# Altium footprint library CONN_HDR_2.54MM_ST.PcbLib: 159 footprints (part 7 of 13)
Each footprint in its own frame and in the unit in brackets; x right, y up, seen from the top. Pads: shape width x height; smd on the part's side, far side on the other; paste and mask are expansions set on the pad; w line width, h text height; cw(c..) or ccw(c..) is an arc to the next point about the centre after c.
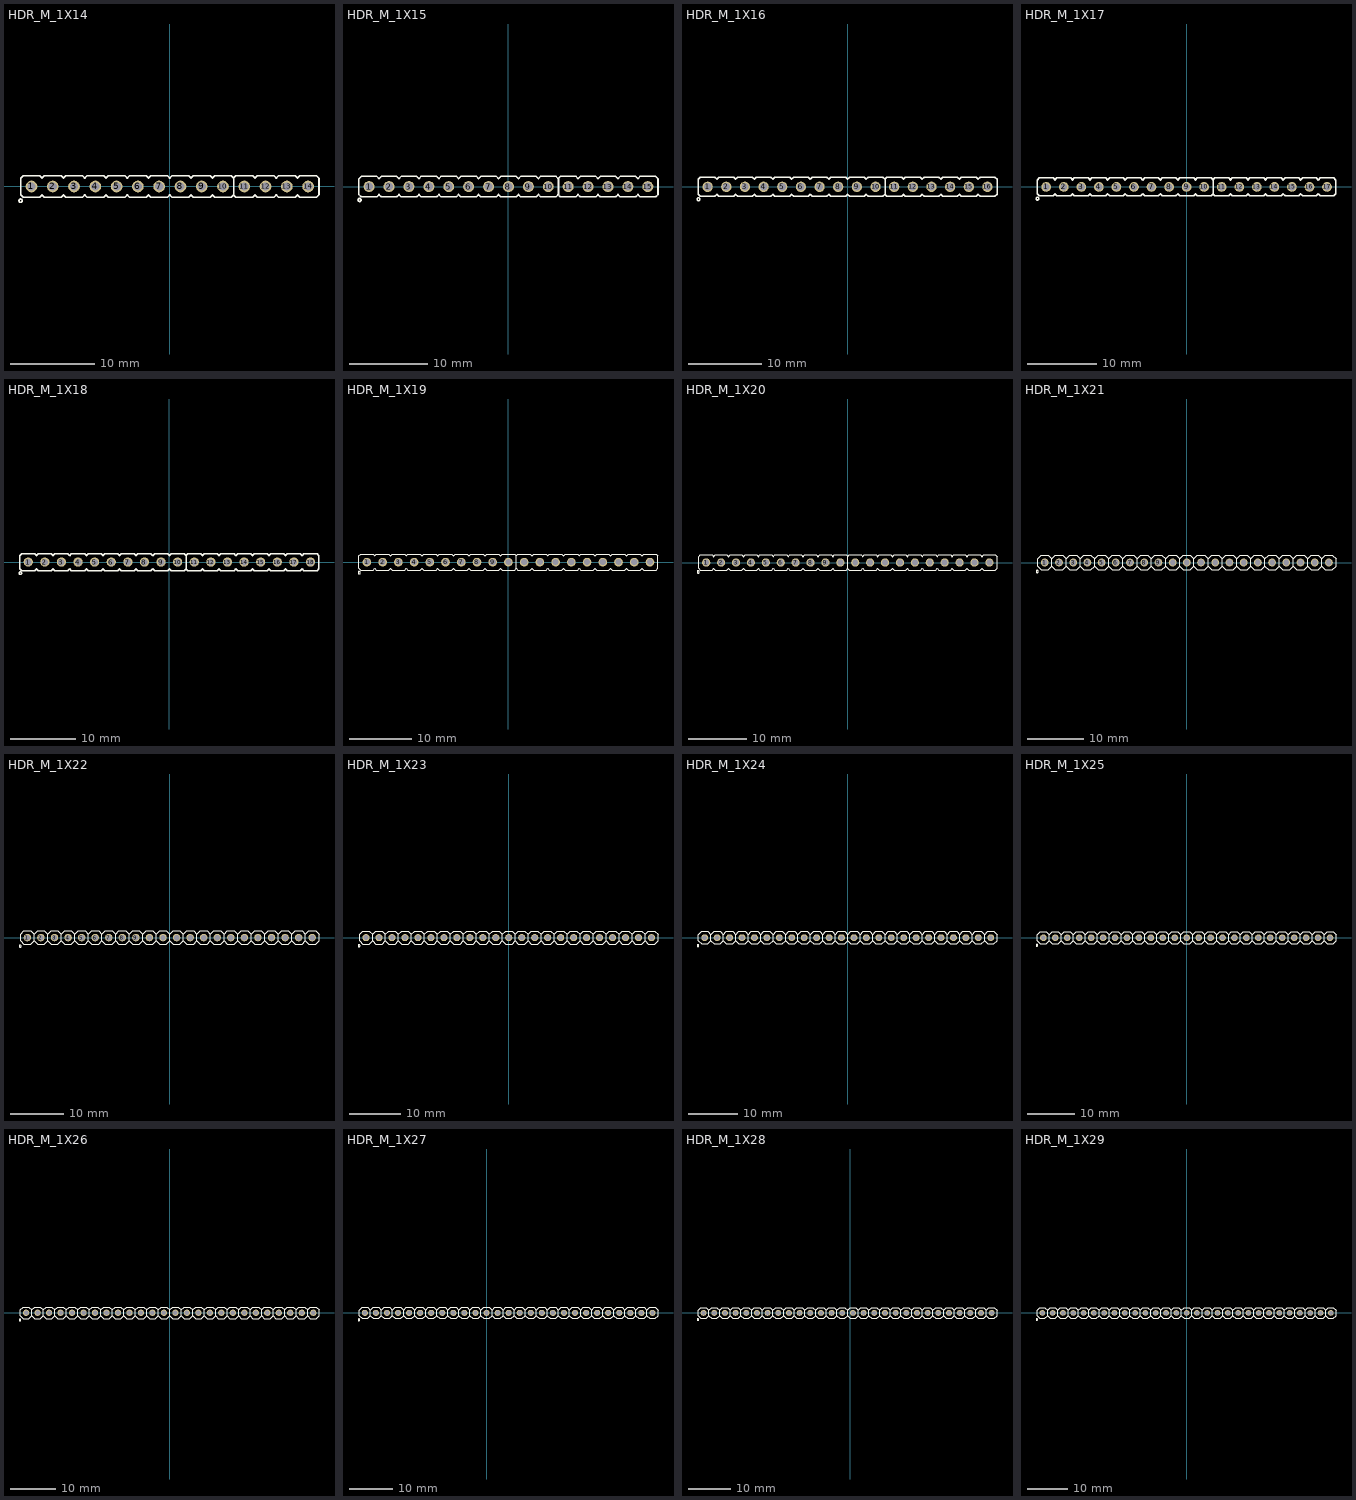
[diagram p6: the footprints below, top view; thin cyan lines are the x and y axes]

## HDR_M_1X14 [mm] "Connector; Header; 14 Position"
pads (14):
  round 1.4 / inner round 1.4 / far side oval 1.4x2.2 hole 1 mask+0.1: 1(-16.51,0) 2(-13.97,0) 3(-11.43,0) 4(-8.89,0) 5(-6.35,0) 6(-3.81,0) 7(-1.27,0) 8(1.27,0) 9(3.81,0) 10(6.35,0) 11(8.89,0) 12(11.43,0) 13(13.97,0) 14(16.51,0)
TopOverlay:
  circle w0.2: c-17.8,-1.7 r0.2
  lines w0.2: -15.27,-1 -14.97,-1.3 -12.97,-1.3 -12.67,-1 ; -15.27,1 -14.97,1.3 -12.97,1.3 -12.67,1 ; -15.21,-1 -15.51,-1.3 -17.51,-1.3 -17.81,-1 -17.81,1 -17.51,1.3 -15.51,1.3 -15.21,1 ; -12.73,-1 -12.43,-1.3 -10.43,-1.3 -10.13,-1 ; -12.73,1 -12.43,1.3 -10.43,1.3 -10.13,1 ; -10.19,-1 -9.89,-1.3 -7.89,-1.3 -7.59,-1 ; -10.19,1 -9.89,1.3 -7.89,1.3 -7.59,1 ; -7.65,-1 -7.35,-1.3 -5.35,-1.3 -5.05,-1 ; -7.65,1 -7.35,1.3 -5.35,1.3 -5.05,1 ; -5.11,-1 -4.81,-1.3 -2.81,-1.3 -2.51,-1 ; -5.11,1 -4.81,1.3 -2.81,1.3 -2.51,1 ; -2.57,-1 -2.27,-1.3 -0.27,-1.3 0.03,-1 ; -2.57,1 -2.27,1.3 -0.27,1.3 0.03,1 ; -0.03,-1 0.27,-1.3 2.27,-1.3 2.57,-1 ; -0.03,1 0.27,1.3 2.27,1.3 2.57,1 ; 2.51,-1 2.81,-1.3 4.81,-1.3 5.11,-1 ; 2.51,1 2.81,1.3 4.81,1.3 5.11,1 ; 5.05,-1 5.35,-1.3 7.35,-1.3 7.65,-1 7.65,1 7.35,1.3 5.35,1.3 5.05,1 ; 7.59,-1 7.89,-1.3 9.89,-1.3 10.19,-1 ; 7.59,1 7.89,1.3 9.89,1.3 10.19,1 ; 10.13,-1 10.43,-1.3 12.43,-1.3 12.73,-1 ; 10.13,1 10.43,1.3 12.43,1.3 12.73,1 ; 12.67,-1 12.97,-1.3 14.97,-1.3 15.27,-1 ; 12.67,1 12.97,1.3 14.97,1.3 15.27,1 ; 15.21,-1 15.51,-1.3 17.51,-1.3 17.81,-1 17.81,1 17.51,1.3 15.51,1.3 15.21,1
3D body "User Library-Header_Male_10Pin.STEP": height 8.54, standoff -3, extent -17.78,-1.3 7.62,1.19
3D body "User Library-Header_Male_1Pin.STEP": height 8.54, standoff -3, extent 7.62,-1.245 10.16,1.245
3D body "User Library-Header_Male_1Pin.STEP": height 8.54, standoff -3, extent 10.16,-1.245 12.7,1.245
3D body "User Library-Header_Male_1Pin.STEP": height 8.54, standoff -3, extent 12.7,-1.245 15.24,1.245
3D body "User Library-Header_Male_1Pin.STEP": height 8.54, standoff -3, extent 15.24,-1.245 17.78,1.245

## HDR_M_1X15 [mm] "Connector; Header; 15 Position"
pads (15):
  round 1.4 / inner round 1.4 / far side oval 1.4x2.2 hole 1 mask+0.1: 1(-17.78,0) 2(-15.24,0) 3(-12.7,0) 4(-10.16,0) 5(-7.62,0) 6(-5.08,0) 7(-2.54,0) 8(0,0) 9(2.54,0) 10(5.08,0) 11(7.62,0) 12(10.16,0) 13(12.7,0) 14(15.24,0) 15(17.78,0)
TopOverlay:
  circle w0.2: c-19,-1.7 r0.2
  lines w0.2: -16.54,-1 -16.24,-1.3 -14.24,-1.3 -13.94,-1 ; -16.54,1 -16.24,1.3 -14.24,1.3 -13.94,1 ; -16.48,-1 -16.78,-1.3 -18.78,-1.3 -19.08,-1 -19.08,1 -18.78,1.3 -16.78,1.3 -16.48,1 ; -14,-1 -13.7,-1.3 -11.7,-1.3 -11.4,-1 ; -14,1 -13.7,1.3 -11.7,1.3 -11.4,1 ; -11.46,-1 -11.16,-1.3 -9.16,-1.3 -8.86,-1 ; -11.46,1 -11.16,1.3 -9.16,1.3 -8.86,1 ; -8.92,-1 -8.62,-1.3 -6.62,-1.3 -6.32,-1 ; -8.92,1 -8.62,1.3 -6.62,1.3 -6.32,1 ; -6.38,-1 -6.08,-1.3 -4.08,-1.3 -3.78,-1 ; -6.38,1 -6.08,1.3 -4.08,1.3 -3.78,1 ; -3.84,-1 -3.54,-1.3 -1.54,-1.3 -1.24,-1 ; -3.84,1 -3.54,1.3 -1.54,1.3 -1.24,1 ; -1.3,-1 -1,-1.3 1,-1.3 1.3,-1 ; -1.3,1 -1,1.3 1,1.3 1.3,1 ; 1.24,-1 1.54,-1.3 3.54,-1.3 3.84,-1 ; 1.24,1 1.54,1.3 3.54,1.3 3.84,1 ; 3.78,-1 4.08,-1.3 6.08,-1.3 6.38,-1 6.38,1 6.08,1.3 4.08,1.3 3.78,1 ; 6.32,-1 6.62,-1.3 8.62,-1.3 8.92,-1 ; 6.32,1 6.62,1.3 8.62,1.3 8.92,1 ; 8.86,-1 9.16,-1.3 11.16,-1.3 11.46,-1 ; 8.86,1 9.16,1.3 11.16,1.3 11.46,1 ; 11.4,-1 11.7,-1.3 13.7,-1.3 14,-1 ; 11.4,1 11.7,1.3 13.7,1.3 14,1 ; 13.94,-1 14.24,-1.3 16.24,-1.3 16.54,-1 ; 13.94,1 14.24,1.3 16.24,1.3 16.54,1 ; 16.48,-1 16.78,-1.3 18.78,-1.3 19.08,-1 19.08,1 18.78,1.3 16.78,1.3 16.48,1
3D body "User Library-Header_Male_10Pin.STEP": height 8.54, standoff -3, extent -19.05,-1.3 6.35,1.19
3D body "User Library-Header_Male_1Pin.STEP": height 8.54, standoff -3, extent 6.35,-1.245 8.89,1.245
3D body "User Library-Header_Male_1Pin.STEP": height 8.54, standoff -3, extent 8.89,-1.245 11.43,1.245
3D body "User Library-Header_Male_1Pin.STEP": height 8.54, standoff -3, extent 11.43,-1.245 13.97,1.245
3D body "User Library-Header_Male_1Pin.STEP": height 8.54, standoff -3, extent 13.97,-1.245 16.51,1.245
3D body "User Library-Header_Male_1Pin.STEP": height 8.54, standoff -3, extent 16.51,-1.245 19.05,1.245

## HDR_M_1X16 [mm] "Connector; Header; 16 Position"
pads (16):
  round 1.4 / inner round 1.4 / far side oval 1.4x2.2 hole 1 mask+0.1: 1(-19.05,0) 2(-16.51,0) 3(-13.97,0) 4(-11.43,0) 5(-8.89,0) 6(-6.35,0) 7(-3.81,0) 8(-1.27,0) 9(1.27,0) 10(3.81,0) 11(6.35,0) 12(8.89,0) 13(11.43,0) 14(13.97,0) 15(16.51,0) 16(19.05,0)
TopOverlay:
  circle w0.2: c-20.3,-1.7 r0.2
  lines w0.2: -17.81,-1 -17.51,-1.3 -15.51,-1.3 -15.21,-1 ; -17.81,1 -17.51,1.3 -15.51,1.3 -15.21,1 ; -17.75,-1 -18.05,-1.3 -20.05,-1.3 -20.35,-1 -20.35,1 -20.05,1.3 -18.05,1.3 -17.75,1 ; -15.27,-1 -14.97,-1.3 -12.97,-1.3 -12.67,-1 ; -15.27,1 -14.97,1.3 -12.97,1.3 -12.67,1 ; -12.73,-1 -12.43,-1.3 -10.43,-1.3 -10.13,-1 ; -12.73,1 -12.43,1.3 -10.43,1.3 -10.13,1 ; -10.19,-1 -9.89,-1.3 -7.89,-1.3 -7.59,-1 ; -10.19,1 -9.89,1.3 -7.89,1.3 -7.59,1 ; -7.65,-1 -7.35,-1.3 -5.35,-1.3 -5.05,-1 ; -7.65,1 -7.35,1.3 -5.35,1.3 -5.05,1 ; -5.11,-1 -4.81,-1.3 -2.81,-1.3 -2.51,-1 ; -5.11,1 -4.81,1.3 -2.81,1.3 -2.51,1 ; -2.57,-1 -2.27,-1.3 -0.27,-1.3 0.03,-1 ; -2.57,1 -2.27,1.3 -0.27,1.3 0.03,1 ; -0.03,-1 0.27,-1.3 2.27,-1.3 2.57,-1 ; -0.03,1 0.27,1.3 2.27,1.3 2.57,1 ; 2.51,-1 2.81,-1.3 4.81,-1.3 5.11,-1 5.11,1 4.81,1.3 2.81,1.3 2.51,1 ; 5.05,-1 5.35,-1.3 7.35,-1.3 7.65,-1 ; 5.05,1 5.35,1.3 7.35,1.3 7.65,1 ; 7.59,-1 7.89,-1.3 9.89,-1.3 10.19,-1 ; 7.59,1 7.89,1.3 9.89,1.3 10.19,1 ; 10.13,-1 10.43,-1.3 12.43,-1.3 12.73,-1 ; 10.13,1 10.43,1.3 12.43,1.3 12.73,1 ; 12.67,-1 12.97,-1.3 14.97,-1.3 15.27,-1 ; 12.67,1 12.97,1.3 14.97,1.3 15.27,1 ; 15.21,-1 15.51,-1.3 17.51,-1.3 17.81,-1 ; 15.21,1 15.51,1.3 17.51,1.3 17.81,1 ; 17.75,-1 18.05,-1.3 20.05,-1.3 20.35,-1 20.35,1 20.05,1.3 18.05,1.3 17.75,1
3D body "User Library-Header_Male_10Pin.STEP": height 8.54, standoff -3, extent -20.32,-1.3 5.08,1.19
3D body "User Library-Header_Male_1Pin.STEP": height 8.54, standoff -3, extent 5.08,-1.245 7.62,1.245
3D body "User Library-Header_Male_1Pin.STEP": height 8.54, standoff -3, extent 7.62,-1.245 10.16,1.245
3D body "User Library-Header_Male_1Pin.STEP": height 8.54, standoff -3, extent 10.16,-1.245 12.7,1.245
3D body "User Library-Header_Male_1Pin.STEP": height 8.54, standoff -3, extent 12.7,-1.245 15.24,1.245
3D body "User Library-Header_Male_1Pin.STEP": height 8.54, standoff -3, extent 15.24,-1.245 17.78,1.245
3D body "User Library-Header_Male_1Pin.STEP": height 8.54, standoff -3, extent 17.78,-1.245 20.32,1.245

## HDR_M_1X17 [mm] "Connector; Header; 17 Position"
pads (17):
  round 1.4 / inner round 1.4 / far side oval 1.4x2.2 hole 1 mask+0.1: 1(-20.32,0) 2(-17.78,0) 3(-15.24,0) 4(-12.7,0) 5(-10.16,0) 6(-7.62,0) 7(-5.08,0) 8(-2.54,0) 9(0,0) 10(2.54,0) 11(5.08,0) 12(7.62,0) 13(10.16,0) 14(12.7,0) 15(15.24,0) 16(17.78,0) 17(20.32,0)
TopOverlay:
  circle w0.2: c-21.6,-1.7 r0.2
  lines w0.2: -19.08,-1 -18.78,-1.3 -16.78,-1.3 -16.48,-1 ; -19.08,1 -18.78,1.3 -16.78,1.3 -16.48,1 ; -19.02,-1 -19.32,-1.3 -21.32,-1.3 -21.62,-1 -21.62,1 -21.32,1.3 -19.32,1.3 -19.02,1 ; -16.54,-1 -16.24,-1.3 -14.24,-1.3 -13.94,-1 ; -16.54,1 -16.24,1.3 -14.24,1.3 -13.94,1 ; -14,-1 -13.7,-1.3 -11.7,-1.3 -11.4,-1 ; -14,1 -13.7,1.3 -11.7,1.3 -11.4,1 ; -11.46,-1 -11.16,-1.3 -9.16,-1.3 -8.86,-1 ; -11.46,1 -11.16,1.3 -9.16,1.3 -8.86,1 ; -8.92,-1 -8.62,-1.3 -6.62,-1.3 -6.32,-1 ; -8.92,1 -8.62,1.3 -6.62,1.3 -6.32,1 ; -6.38,-1 -6.08,-1.3 -4.08,-1.3 -3.78,-1 ; -6.38,1 -6.08,1.3 -4.08,1.3 -3.78,1 ; -3.84,-1 -3.54,-1.3 -1.54,-1.3 -1.24,-1 ; -3.84,1 -3.54,1.3 -1.54,1.3 -1.24,1 ; -1.3,-1 -1,-1.3 1,-1.3 1.3,-1 ; -1.3,1 -1,1.3 1,1.3 1.3,1 ; 1.24,-1 1.54,-1.3 3.54,-1.3 3.84,-1 3.84,1 3.54,1.3 1.54,1.3 1.24,1 ; 3.78,-1 4.08,-1.3 6.08,-1.3 6.38,-1 ; 3.78,1 4.08,1.3 6.08,1.3 6.38,1 ; 6.32,-1 6.62,-1.3 8.62,-1.3 8.92,-1 ; 6.32,1 6.62,1.3 8.62,1.3 8.92,1 ; 8.86,-1 9.16,-1.3 11.16,-1.3 11.46,-1 ; 8.86,1 9.16,1.3 11.16,1.3 11.46,1 ; 11.4,-1 11.7,-1.3 13.7,-1.3 14,-1 ; 11.4,1 11.7,1.3 13.7,1.3 14,1 ; 13.94,-1 14.24,-1.3 16.24,-1.3 16.54,-1 ; 13.94,1 14.24,1.3 16.24,1.3 16.54,1 ; 16.48,-1 16.78,-1.3 18.78,-1.3 19.08,-1 ; 16.48,1 16.78,1.3 18.78,1.3 19.08,1 ; 19.02,-1 19.32,-1.3 21.32,-1.3 21.62,-1 21.62,1 21.32,1.3 19.32,1.3 19.02,1
3D body "User Library-Header_Male_10Pin.STEP": height 8.54, standoff -3, extent -21.59,-1.3 3.81,1.19
3D body "User Library-Header_Male_1Pin.STEP": height 8.54, standoff -3, extent 3.81,-1.245 6.35,1.245
3D body "User Library-Header_Male_1Pin.STEP": height 8.54, standoff -3, extent 6.35,-1.245 8.89,1.245
3D body "User Library-Header_Male_1Pin.STEP": height 8.54, standoff -3, extent 8.89,-1.245 11.43,1.245
3D body "User Library-Header_Male_1Pin.STEP": height 8.54, standoff -3, extent 11.43,-1.245 13.97,1.245
3D body "User Library-Header_Male_1Pin.STEP": height 8.54, standoff -3, extent 13.97,-1.245 16.51,1.245
3D body "User Library-Header_Male_1Pin.STEP": height 8.54, standoff -3, extent 16.51,-1.245 19.05,1.245
3D body "User Library-Header_Male_1Pin.STEP": height 8.54, standoff -3, extent 19.05,-1.245 21.59,1.245

## HDR_M_1X18 [mm] "Connector; Header; 18 Position"
pads (18):
  round 1.4 / inner round 1.4 / far side oval 1.4x2.2 hole 1 mask+0.1: 1(-21.59,0) 2(-19.05,0) 3(-16.51,0) 4(-13.97,0) 5(-11.43,0) 6(-8.89,0) 7(-6.35,0) 8(-3.81,0) 9(-1.27,0) 10(1.27,0) 11(3.81,0) 12(6.35,0) 13(8.89,0) 14(11.43,0) 15(13.97,0) 16(16.51,0) 17(19.05,0) 18(21.59,0)
TopOverlay:
  circle w0.2: c-22.8,-1.7 r0.2
  lines w0.2: -20.35,-1 -20.05,-1.3 -18.05,-1.3 -17.75,-1 ; -20.35,1 -20.05,1.3 -18.05,1.3 -17.75,1 ; -20.29,-1 -20.59,-1.3 -22.59,-1.3 -22.89,-1 -22.89,1 -22.59,1.3 -20.59,1.3 -20.29,1 ; -17.81,-1 -17.51,-1.3 -15.51,-1.3 -15.21,-1 ; -17.81,1 -17.51,1.3 -15.51,1.3 -15.21,1 ; -15.27,-1 -14.97,-1.3 -12.97,-1.3 -12.67,-1 ; -15.27,1 -14.97,1.3 -12.97,1.3 -12.67,1 ; -12.73,-1 -12.43,-1.3 -10.43,-1.3 -10.13,-1 ; -12.73,1 -12.43,1.3 -10.43,1.3 -10.13,1 ; -10.19,-1 -9.89,-1.3 -7.89,-1.3 -7.59,-1 ; -10.19,1 -9.89,1.3 -7.89,1.3 -7.59,1 ; -7.65,-1 -7.35,-1.3 -5.35,-1.3 -5.05,-1 ; -7.65,1 -7.35,1.3 -5.35,1.3 -5.05,1 ; -5.11,-1 -4.81,-1.3 -2.81,-1.3 -2.51,-1 ; -5.11,1 -4.81,1.3 -2.81,1.3 -2.51,1 ; -2.57,-1 -2.27,-1.3 -0.27,-1.3 0.03,-1 ; -2.57,1 -2.27,1.3 -0.27,1.3 0.03,1 ; -0.03,-1 0.27,-1.3 2.27,-1.3 2.57,-1 2.57,1 2.27,1.3 0.27,1.3 -0.03,1 ; 2.51,-1 2.81,-1.3 4.81,-1.3 5.11,-1 ; 2.51,1 2.81,1.3 4.81,1.3 5.11,1 ; 5.05,-1 5.35,-1.3 7.35,-1.3 7.65,-1 ; 5.05,1 5.35,1.3 7.35,1.3 7.65,1 ; 7.59,-1 7.89,-1.3 9.89,-1.3 10.19,-1 ; 7.59,1 7.89,1.3 9.89,1.3 10.19,1 ; 10.13,-1 10.43,-1.3 12.43,-1.3 12.73,-1 ; 10.13,1 10.43,1.3 12.43,1.3 12.73,1 ; 12.67,-1 12.97,-1.3 14.97,-1.3 15.27,-1 ; 12.67,1 12.97,1.3 14.97,1.3 15.27,1 ; 15.21,-1 15.51,-1.3 17.51,-1.3 17.81,-1 ; 15.21,1 15.51,1.3 17.51,1.3 17.81,1 ; 17.75,-1 18.05,-1.3 20.05,-1.3 20.35,-1 ; 17.75,1 18.05,1.3 20.05,1.3 20.35,1 ; 20.29,-1 20.59,-1.3 22.59,-1.3 22.89,-1 22.89,1 22.59,1.3 20.59,1.3 20.29,1
3D body "User Library-Header_Male_10Pin.STEP": height 8.54, standoff -3, extent -22.86,-1.3 2.54,1.19
3D body "User Library-Header_Male_1Pin.STEP": height 8.54, standoff -3, extent 2.54,-1.245 5.08,1.245
3D body "User Library-Header_Male_1Pin.STEP": height 8.54, standoff -3, extent 5.08,-1.245 7.62,1.245
3D body "User Library-Header_Male_1Pin.STEP": height 8.54, standoff -3, extent 7.62,-1.245 10.16,1.245
3D body "User Library-Header_Male_1Pin.STEP": height 8.54, standoff -3, extent 10.16,-1.245 12.7,1.245
3D body "User Library-Header_Male_1Pin.STEP": height 8.54, standoff -3, extent 12.7,-1.245 15.24,1.245
3D body "User Library-Header_Male_1Pin.STEP": height 8.54, standoff -3, extent 15.24,-1.245 17.78,1.245
3D body "User Library-Header_Male_1Pin.STEP": height 8.54, standoff -3, extent 17.78,-1.245 20.32,1.245
3D body "User Library-Header_Male_1Pin.STEP": height 8.54, standoff -3, extent 20.32,-1.245 22.86,1.245

## HDR_M_1X19 [mm] "Connector; Header; 19 Position"
pads (19):
  round 1.4 / inner round 1.4 / far side oval 1.4x2.2 hole 1 mask+0.1: 1(-22.86,0) 2(-20.32,0) 3(-17.78,0) 4(-15.24,0) 5(-12.7,0) 6(-10.16,0) 7(-7.62,0) 8(-5.08,0) 9(-2.54,0) 10(0,0) 11(2.54,0) 12(5.08,0) 13(7.62,0) 14(10.16,0) 15(12.7,0) 16(15.24,0) 17(17.78,0) 18(20.32,0) 19(22.86,0)
TopOverlay:
  circle w0.2: c-24.1,-1.7 r0.2
  lines w0.2: -21.62,-1 -21.32,-1.3 -19.32,-1.3 -19.02,-1 ; -21.62,1 -21.32,1.3 -19.32,1.3 -19.02,1 ; -21.56,-1 -21.86,-1.3 -23.86,-1.3 -24.16,-1 -24.16,1 -23.86,1.3 -21.86,1.3 -21.56,1 ; -19.08,-1 -18.78,-1.3 -16.78,-1.3 -16.48,-1 ; -19.08,1 -18.78,1.3 -16.78,1.3 -16.48,1 ; -16.54,-1 -16.24,-1.3 -14.24,-1.3 -13.94,-1 ; -16.54,1 -16.24,1.3 -14.24,1.3 -13.94,1 ; -14,-1 -13.7,-1.3 -11.7,-1.3 -11.4,-1 ; -14,1 -13.7,1.3 -11.7,1.3 -11.4,1 ; -11.46,-1 -11.16,-1.3 -9.16,-1.3 -8.86,-1 ; -11.46,1 -11.16,1.3 -9.16,1.3 -8.86,1 ; -8.92,-1 -8.62,-1.3 -6.62,-1.3 -6.32,-1 ; -8.92,1 -8.62,1.3 -6.62,1.3 -6.32,1 ; -6.38,-1 -6.08,-1.3 -4.08,-1.3 -3.78,-1 ; -6.38,1 -6.08,1.3 -4.08,1.3 -3.78,1 ; -3.84,-1 -3.54,-1.3 -1.54,-1.3 -1.24,-1 ; -3.84,1 -3.54,1.3 -1.54,1.3 -1.24,1 ; -1.3,-1 -1,-1.3 1,-1.3 1.3,-1 1.3,1 1,1.3 -1,1.3 -1.3,1 ; 1.24,-1 1.54,-1.3 3.54,-1.3 3.84,-1 ; 1.24,1 1.54,1.3 3.54,1.3 3.84,1 ; 3.78,-1 4.08,-1.3 6.08,-1.3 6.38,-1 ; 3.78,1 4.08,1.3 6.08,1.3 6.38,1 ; 6.32,-1 6.62,-1.3 8.62,-1.3 8.92,-1 ; 6.32,1 6.62,1.3 8.62,1.3 8.92,1 ; 8.86,-1 9.16,-1.3 11.16,-1.3 11.46,-1 ; 8.86,1 9.16,1.3 11.16,1.3 11.46,1 ; 11.4,-1 11.7,-1.3 13.7,-1.3 14,-1 ; 11.4,1 11.7,1.3 13.7,1.3 14,1 ; 13.94,-1 14.24,-1.3 16.24,-1.3 16.54,-1 ; 13.94,1 14.24,1.3 16.24,1.3 16.54,1 ; 16.48,-1 16.78,-1.3 18.78,-1.3 19.08,-1 ; 16.48,1 16.78,1.3 18.78,1.3 19.08,1 ; 19.02,-1 19.32,-1.3 21.32,-1.3 21.62,-1 ; 19.02,1 19.32,1.3 21.32,1.3 21.62,1 ; 21.56,-1 21.86,-1.3 23.86,-1.3 24.16,-1 24.16,1 23.86,1.3 21.86,1.3 21.56,1
3D body "User Library-Header_Male_1Pin.STEP": height 8.54, standoff -3, extent 21.59,-1.245 24.13,1.245
3D body "User Library-Header_Male_1Pin.STEP": height 8.54, standoff -3, extent 19.05,-1.245 21.59,1.245
3D body "User Library-Header_Male_1Pin.STEP": height 8.54, standoff -3, extent 16.51,-1.245 19.05,1.245
3D body "User Library-Header_Male_1Pin.STEP": height 8.54, standoff -3, extent 13.97,-1.245 16.51,1.245
3D body "User Library-Header_Male_1Pin.STEP": height 8.54, standoff -3, extent 11.43,-1.245 13.97,1.245
3D body "User Library-Header_Male_1Pin.STEP": height 8.54, standoff -3, extent 8.89,-1.245 11.43,1.245
3D body "User Library-Header_Male_1Pin.STEP": height 8.54, standoff -3, extent 6.35,-1.245 8.89,1.245
3D body "User Library-Header_Male_1Pin.STEP": height 8.54, standoff -3, extent 3.81,-1.245 6.35,1.245
3D body "User Library-Header_Male_1Pin.STEP": height 8.54, standoff -3, extent 1.27,-1.245 3.81,1.245
3D body "User Library-Header_Male_10Pin.STEP": height 8.54, standoff -3, extent -24.13,-1.3 1.27,1.19

## HDR_M_1X20 [mm] "Connector; Header; 20 Position"
pads (20):
  round 1.4 / inner round 1.4 / far side oval 1.4x2.2 hole 1 mask+0.1: 1(-24.13,0) 2(-21.59,0) 3(-19.05,0) 4(-16.51,0) 5(-13.97,0) 6(-11.43,0) 7(-8.89,0) 8(-6.35,0) 9(-3.81,0) 10(-1.27,0) 11(1.27,0) 12(3.81,0) 13(6.35,0) 14(8.89,0) 15(11.43,0) 16(13.97,0) 17(16.51,0) 18(19.05,0) 19(21.59,0) 20(24.13,0)
TopOverlay:
  circle w0.2: c-25.5,-1.6 r0.2
  lines w0.2: -22.89,-1 -22.59,-1.3 -20.59,-1.3 -20.29,-1 ; -22.89,1 -22.59,1.3 -20.59,1.3 -20.29,1 ; -22.83,-1 -23.13,-1.3 -25.13,-1.3 -25.43,-1 -25.43,1 -25.13,1.3 -23.13,1.3 -22.83,1 ; -20.35,-1 -20.05,-1.3 -18.05,-1.3 -17.75,-1 ; -20.35,1 -20.05,1.3 -18.05,1.3 -17.75,1 ; -17.81,-1 -17.51,-1.3 -15.51,-1.3 -15.21,-1 ; -17.81,1 -17.51,1.3 -15.51,1.3 -15.21,1 ; -15.27,-1 -14.97,-1.3 -12.97,-1.3 -12.67,-1 ; -15.27,1 -14.97,1.3 -12.97,1.3 -12.67,1 ; -12.73,-1 -12.43,-1.3 -10.43,-1.3 -10.13,-1 ; -12.73,1 -12.43,1.3 -10.43,1.3 -10.13,1 ; -10.19,-1 -9.89,-1.3 -7.89,-1.3 -7.59,-1 ; -10.19,1 -9.89,1.3 -7.89,1.3 -7.59,1 ; -7.65,-1 -7.35,-1.3 -5.35,-1.3 -5.05,-1 ; -7.65,1 -7.35,1.3 -5.35,1.3 -5.05,1 ; -5.11,-1 -4.81,-1.3 -2.81,-1.3 -2.51,-1 ; -5.11,1 -4.81,1.3 -2.81,1.3 -2.51,1 ; -2.57,-1 -2.27,-1.3 -0.27,-1.3 0.03,-1 ; -2.57,1 -2.27,1.3 -0.27,1.3 0.03,1 ; 2.51,-1 2.81,-1.3 4.81,-1.3 5.11,-1 ; 2.51,1 2.81,1.3 4.81,1.3 5.11,1 ; 2.57,-1 2.27,-1.3 0.27,-1.3 0,-1.03 0,1.03 0.27,1.3 2.27,1.3 2.57,1 ; 5.05,-1 5.35,-1.3 7.35,-1.3 7.65,-1 ; 5.05,1 5.35,1.3 7.35,1.3 7.65,1 ; 7.59,-1 7.89,-1.3 9.89,-1.3 10.19,-1 ; 7.59,1 7.89,1.3 9.89,1.3 10.19,1 ; 10.13,-1 10.43,-1.3 12.43,-1.3 12.73,-1 ; 10.13,1 10.43,1.3 12.43,1.3 12.73,1 ; 12.67,-1 12.97,-1.3 14.97,-1.3 15.27,-1 ; 12.67,1 12.97,1.3 14.97,1.3 15.27,1 ; 15.21,-1 15.51,-1.3 17.51,-1.3 17.81,-1 ; 15.21,1 15.51,1.3 17.51,1.3 17.81,1 ; 17.75,-1 18.05,-1.3 20.05,-1.3 20.35,-1 ; 17.75,1 18.05,1.3 20.05,1.3 20.35,1 ; 20.29,-1 20.59,-1.3 22.59,-1.3 22.89,-1 ; 20.29,1 20.59,1.3 22.59,1.3 22.89,1 ; 22.83,-1 23.13,-1.3 25.13,-1.3 25.43,-1 25.43,1 25.13,1.3 23.13,1.3 22.83,1
3D body "User Library-Header_Male_10Pin.STEP": height 8.54, standoff -3, extent -25.4,-1.3 0,1.19
3D body "User Library-Header_Male_10Pin.STEP": height 8.54, standoff -3, extent 0,-1.3 25.4,1.19

## HDR_M_1X21 [mm] "Connector; Header; 21 Position"
height 7.5
pads (21):
  round 1.4 / inner round 1.4 / far side oval 1.4x2.2 hole 1: 1(-25.4,0) 2(-22.86,0) 3(-20.32,0) 4(-17.78,0) 5(-15.24,0) 6(-12.7,0) 7(-10.16,0) 8(-7.62,0) 9(-5.08,0) 10(-2.54,0) 11(0,0) 12(2.54,0) 13(5.08,0) 14(7.62,0) 15(10.16,0) 16(12.7,0) 17(15.24,0) 18(17.78,0) 19(20.32,0) 20(22.86,0) 21(25.4,0)
TopOverlay:
  circle w0.2: c-26.77,-1.6 r0.2
  lines w0.152: -24.13,-0.635 -23.495,-1.27 -22.225,-1.27 -21.59,-0.635 ; -24.13,-0.635 -24.13,0.635 ; -24.13,-0.635 -24.765,-1.27 -26.035,-1.27 -26.67,-0.635 -26.67,0.635 -26.035,1.27 -24.765,1.27 -24.13,0.635 ; -24.13,0.635 -23.495,1.27 -22.225,1.27 -21.59,0.635 ; -21.59,-0.635 -21.59,0.635 ; -21.59,-0.635 -20.955,-1.27 -19.685,-1.27 -19.05,-0.635 ; -21.59,0.635 -20.955,1.27 -19.685,1.27 -19.05,0.635 ; -19.05,-0.635 -19.05,0.635 ; -19.05,-0.635 -18.415,-1.27 -17.145,-1.27 -16.51,-0.635 ; -19.05,0.635 -18.415,1.27 -17.145,1.27 -16.51,0.635 ; -16.51,-0.635 -16.51,0.635 ; -16.51,-0.635 -15.875,-1.27 -14.605,-1.27 -13.97,-0.635 ; -16.51,0.635 -15.875,1.27 -14.605,1.27 -13.97,0.635 ; -13.97,-0.635 -13.97,0.635 ; -13.97,-0.635 -13.335,-1.27 -12.065,-1.27 -11.43,-0.635 ; -13.97,0.635 -13.335,1.27 -12.065,1.27 -11.43,0.635 ; -11.43,-0.635 -11.43,0.635 ; -11.43,-0.635 -10.795,-1.27 -9.525,-1.27 -8.89,-0.635 ; -11.43,0.635 -10.795,1.27 -9.525,1.27 -8.89,0.635 ; -8.89,-0.635 -8.255,-1.27 -6.985,-1.27 -6.35,-0.635 ; -8.89,-0.635 -8.89,0.635 ; -8.89,0.635 -8.255,1.27 -6.985,1.27 -6.35,0.635 ; -6.35,-0.635 -6.35,0.635 ; -6.35,-0.635 -5.715,-1.27 -4.445,-1.27 -3.81,-0.635 ; -6.35,0.635 -5.715,1.27 -4.445,1.27 -3.81,0.635 ; -3.81,-0.635 -3.175,-1.27 -1.905,-1.27 -1.27,-0.635 ; -3.81,-0.635 -3.81,0.635 ; -3.81,0.635 -3.175,1.27 -1.905,1.27 -1.27,0.635 ; -1.27,-0.635 -1.27,0.635 ; -1.27,-0.635 -0.635,-1.27 0.635,-1.27 1.27,-0.635 ; -1.27,0.635 -0.635,1.27 0.635,1.27 1.27,0.635 ; 1.27,-0.635 1.905,-1.27 3.175,-1.27 3.81,-0.635 ; 1.27,-0.635 1.27,0.635 ; 1.27,0.635 1.905,1.27 3.175,1.27 3.81,0.635 ; 3.81,-0.635 4.445,-1.27 5.715,-1.27 6.35,-0.635 ; 3.81,-0.635 3.81,0.635 ; 3.81,0.635 4.445,1.27 5.715,1.27 6.35,0.635 ; 6.35,-0.635 6.35,0.635 ; 6.35,-0.635 6.985,-1.27 8.255,-1.27 8.89,-0.635 ; 6.35,0.635 6.985,1.27 8.255,1.27 8.89,0.635 ; 8.89,-0.635 9.525,-1.27 10.795,-1.27 11.43,-0.635 ; 8.89,-0.635 8.89,0.635 ; 8.89,0.635 9.525,1.27 10.795,1.27 11.43,0.635 ; 11.43,-0.635 11.43,0.635 ; 11.43,-0.635 12.065,-1.27 13.335,-1.27 13.97,-0.635 ; 11.43,0.635 12.065,1.27 13.335,1.27 13.97,0.635 ; 13.97,-0.635 14.605,-1.27 15.875,-1.27 16.51,-0.635 ; 13.97,-0.635 13.97,0.635 ; 13.97,0.635 14.605,1.27 15.875,1.27 16.51,0.635 ; 16.51,-0.635 16.51,0.635 ; 16.51,-0.635 17.145,-1.27 18.415,-1.27 19.05,-0.635 ; 16.51,0.635 17.145,1.27 18.415,1.27 19.05,0.635 ; 19.05,-0.635 19.685,-1.27 20.955,-1.27 21.59,-0.635 ; 19.05,-0.635 19.05,0.635 ; 19.05,0.635 19.685,1.27 20.955,1.27 21.59,0.635 ; 21.59,-0.635 21.59,0.635 ; 21.59,-0.635 22.225,-1.27 23.495,-1.27 24.13,-0.635 ; 21.59,0.635 22.225,1.27 23.495,1.27 24.13,0.635 ; 24.13,-0.635 24.765,-1.27 26.035,-1.27 26.67,-0.635 26.67,0.635 26.035,1.27 24.765,1.27 24.13,0.635 ; 24.13,-0.635 24.13,0.635
3D body "PLS-1.step": height 8.54, standoff -2.9, extent 24.155,-1.27 26.695,1.27
3D body "PLS-1.step": height 8.54, standoff -2.9, extent 19.075,-1.27 21.615,1.27
3D body "PLS-1.step": height 8.54, standoff -2.9, extent 13.995,-1.27 16.535,1.27
3D body "PLS-1.step": height 8.54, standoff -2.9, extent 8.915,-1.27 11.455,1.27
3D body "PLS-1.step": height 8.54, standoff -2.9, extent 3.835,-1.27 6.375,1.27
3D body "PLS-1.step": height 8.54, standoff -2.9, extent 1.295,-1.27 3.835,1.27
3D body "PLS-1.step": height 8.54, standoff -2.9, extent -3.785,-1.27 -1.245,1.27
3D body "PLS-1.step": height 8.54, standoff -2.9, extent -8.865,-1.27 -6.325,1.27
3D body "PLS-1.step": height 8.54, standoff -2.9, extent -24.105,-1.27 -21.565,1.27
3D body "PLS-1.step": height 8.54, standoff -2.9, extent -26.645,-1.27 -24.105,1.27
3D body "PLS-1.step": height 8.54, standoff -2.9, extent -21.565,-1.27 -19.025,1.27
3D body "PLS-1.step": height 8.54, standoff -2.9, extent -19.025,-1.27 -16.485,1.27
3D body "PLS-1.step": height 8.54, standoff -2.9, extent -16.485,-1.27 -13.945,1.27
3D body "PLS-1.step": height 8.54, standoff -2.9, extent -13.945,-1.27 -11.405,1.27
3D body "PLS-1.step": height 8.54, standoff -2.9, extent -11.405,-1.27 -8.865,1.27
3D body "PLS-1.step": height 8.54, standoff -2.9, extent -6.325,-1.27 -3.785,1.27
3D body "PLS-1.step": height 8.54, standoff -2.9, extent -1.245,-1.27 1.295,1.27
3D body "PLS-1.step": height 8.54, standoff -2.9, extent 6.375,-1.27 8.915,1.27
3D body "PLS-1.step": height 8.54, standoff -2.9, extent 11.455,-1.27 13.995,1.27
3D body "PLS-1.step": height 8.54, standoff -2.9, extent 16.535,-1.27 19.075,1.27
3D body "PLS-1.step": height 8.54, standoff -2.9, extent 21.615,-1.27 24.155,1.27

## HDR_M_1X22 [mm] "Connector; Header; 22 Position"
height 7.5
pads (22):
  round 1.4 / inner round 1.4 / far side oval 1.4x2.2 hole 1: 1(-26.67,0) 2(-24.13,0) 3(-21.59,0) 4(-19.05,0) 5(-16.51,0) 6(-13.97,0) 7(-11.43,0) 8(-8.89,0) 9(-6.35,0) 10(-3.81,0) 11(-1.27,0) 12(1.27,0) 13(3.81,0) 14(6.35,0) 15(8.89,0) 16(11.43,0) 17(13.97,0) 18(16.51,0) 19(19.05,0) 20(21.59,0) 21(24.13,0) 22(26.67,0)
TopOverlay:
  drawing of 156 lines, arcs and shapes, not listed
3D body "PLS-1.step": height 8.54, standoff -2.9, extent 25.425,-1.27 27.965,1.27
3D body "PLS-1.step": height 8.54, standoff -2.9, extent 20.345,-1.27 22.885,1.27
3D body "PLS-1.step": height 8.54, standoff -2.9, extent 15.265,-1.27 17.805,1.27
3D body "PLS-1.step": height 8.54, standoff -2.9, extent 10.185,-1.27 12.725,1.27
3D body "PLS-1.step": height 8.54, standoff -2.9, extent 5.105,-1.27 7.645,1.27
3D body "PLS-1.step": height 8.54, standoff -2.9, extent -2.515,-1.27 0.025,1.27
3D body "PLS-1.step": height 8.54, standoff -2.9, extent -7.595,-1.27 -5.055,1.27
3D body "PLS-1.step": height 8.54, standoff -2.9, extent -12.675,-1.27 -10.135,1.27
3D body "PLS-1.step": height 8.54, standoff -2.9, extent -15.215,-1.27 -12.675,1.27
3D body "PLS-1.step": height 8.54, standoff -2.9, extent -17.755,-1.27 -15.215,1.27
3D body "PLS-1.step": height 8.54, standoff -2.9, extent -20.295,-1.27 -17.755,1.27
3D body "PLS-1.step": height 8.54, standoff -2.9, extent -22.835,-1.27 -20.295,1.27
3D body "PLS-1.step": height 8.54, standoff -2.9, extent -27.915,-1.27 -25.375,1.27
3D body "PLS-1.step": height 8.54, standoff -2.9, extent -25.375,-1.27 -22.835,1.27
3D body "PLS-1.step": height 8.54, standoff -2.9, extent -10.135,-1.27 -7.595,1.27
3D body "PLS-1.step": height 8.54, standoff -2.9, extent -5.055,-1.27 -2.515,1.27
3D body "PLS-1.step": height 8.54, standoff -2.9, extent 0.025,-1.27 2.565,1.27
3D body "PLS-1.step": height 8.54, standoff -2.9, extent 2.565,-1.27 5.105,1.27
3D body "PLS-1.step": height 8.54, standoff -2.9, extent 7.645,-1.27 10.185,1.27
3D body "PLS-1.step": height 8.54, standoff -2.9, extent 12.725,-1.27 15.265,1.27
3D body "PLS-1.step": height 8.54, standoff -2.9, extent 17.805,-1.27 20.345,1.27
3D body "PLS-1.step": height 8.54, standoff -2.9, extent 22.885,-1.27 25.425,1.27

## HDR_M_1X23 [mm] "Connector; Header; 23 Position"
height 7.5
pads (23):
  round 1.4 / inner round 1.4 / far side oval 1.4x2.2 hole 1: 1(-27.94,0) 2(-25.4,0) 3(-22.86,0) 4(-20.32,0) 5(-17.78,0) 6(-15.24,0) 7(-12.7,0) 8(-10.16,0) 9(-7.62,0) 10(-5.08,0) 11(-2.54,0) 12(0,0) 13(2.54,0) 14(5.08,0) 15(7.62,0) 16(10.16,0) 17(12.7,0) 18(15.24,0) 19(17.78,0) 20(20.32,0) 21(22.86,0) 22(25.4,0) 23(27.94,0)
TopOverlay:
  drawing of 163 lines, arcs and shapes, not listed
3D body "PLS-1.step": height 8.54, standoff -2.9, extent 24.155,-1.27 26.695,1.27
3D body "PLS-1.step": height 8.54, standoff -2.9, extent 19.075,-1.27 21.615,1.27
3D body "PLS-1.step": height 8.54, standoff -2.9, extent 13.995,-1.27 16.535,1.27
3D body "PLS-1.step": height 8.54, standoff -2.9, extent 8.915,-1.27 11.455,1.27
3D body "PLS-1.step": height 8.54, standoff -2.9, extent 3.835,-1.27 6.375,1.27
3D body "PLS-1.step": height 8.54, standoff -2.9, extent -3.785,-1.27 -1.245,1.27
3D body "PLS-1.step": height 8.54, standoff -2.9, extent -8.865,-1.27 -6.325,1.27
3D body "PLS-1.step": height 8.54, standoff -2.9, extent -13.945,-1.27 -11.405,1.27
3D body "PLS-1.step": height 8.54, standoff -2.9, extent -16.485,-1.27 -13.945,1.27
3D body "PLS-1.step": height 8.54, standoff -2.9, extent -19.025,-1.27 -16.485,1.27
3D body "PLS-1.step": height 8.54, standoff -2.9, extent -21.565,-1.27 -19.025,1.27
3D body "PLS-1.step": height 8.54, standoff -2.9, extent -24.105,-1.27 -21.565,1.27
3D body "PLS-1.step": height 8.54, standoff -2.9, extent -29.185,-1.27 -26.645,1.27
3D body "PLS-1.step": height 8.54, standoff -2.9, extent -26.645,-1.27 -24.105,1.27
3D body "PLS-1.step": height 8.54, standoff -2.9, extent -11.405,-1.27 -8.865,1.27
3D body "PLS-1.step": height 8.54, standoff -2.9, extent -6.325,-1.27 -3.785,1.27
3D body "PLS-1.step": height 8.54, standoff -2.9, extent -1.245,-1.27 1.295,1.27
3D body "PLS-1.step": height 8.54, standoff -2.9, extent 1.295,-1.27 3.835,1.27
3D body "PLS-1.step": height 8.54, standoff -2.9, extent 6.375,-1.27 8.915,1.27
3D body "PLS-1.step": height 8.54, standoff -2.9, extent 11.455,-1.27 13.995,1.27
3D body "PLS-1.step": height 8.54, standoff -2.9, extent 16.535,-1.27 19.075,1.27
3D body "PLS-1.step": height 8.54, standoff -2.9, extent 21.615,-1.27 24.155,1.27
3D body "PLS-1.step": height 8.54, standoff -2.9, extent 26.695,-1.27 29.235,1.27

## HDR_M_1X24 [mm] "Connector; Header; 24 Position"
height 7.5
pads (24):
  round 1.4 / inner round 1.4 / far side oval 1.4x2.2 hole 1: 1(-29.21,0) 2(-26.67,0) 3(-24.13,0) 4(-21.59,0) 5(-19.05,0) 6(-16.51,0) 7(-13.97,0) 8(-11.43,0) 9(-8.89,0) 10(-6.35,0) 11(-3.81,0) 12(-1.27,0) 13(1.27,0) 14(3.81,0) 15(6.35,0) 16(8.89,0) 17(11.43,0) 18(13.97,0) 19(16.51,0) 20(19.05,0) 21(21.59,0) 22(24.13,0) 23(26.67,0) 24(29.21,0)
TopOverlay:
  drawing of 170 lines, arcs and shapes, not listed
3D body "PLS-1.step": height 8.54, standoff -2.9, extent 27.965,-1.27 30.505,1.27
3D body "PLS-1.step": height 8.54, standoff -2.9, extent 25.425,-1.27 27.965,1.27
3D body "PLS-1.step": height 8.54, standoff -2.9, extent 20.345,-1.27 22.885,1.27
3D body "PLS-1.step": height 8.54, standoff -2.9, extent 15.265,-1.27 17.805,1.27
3D body "PLS-1.step": height 8.54, standoff -2.9, extent 10.185,-1.27 12.725,1.27
3D body "PLS-1.step": height 8.54, standoff -2.9, extent 5.105,-1.27 7.645,1.27
3D body "PLS-1.step": height 8.54, standoff -2.9, extent 0.025,-1.27 2.565,1.27
3D body "PLS-1.step": height 8.54, standoff -2.9, extent -2.515,-1.27 0.025,1.27
3D body "PLS-1.step": height 8.54, standoff -2.9, extent -7.595,-1.27 -5.055,1.27
3D body "PLS-1.step": height 8.54, standoff -2.9, extent -12.675,-1.27 -10.135,1.27
3D body "PLS-1.step": height 8.54, standoff -2.9, extent -27.915,-1.27 -25.375,1.27
3D body "PLS-1.step": height 8.54, standoff -2.9, extent -30.455,-1.27 -27.915,1.27
3D body "PLS-1.step": height 8.54, standoff -2.9, extent -25.375,-1.27 -22.835,1.27
3D body "PLS-1.step": height 8.54, standoff -2.9, extent -22.835,-1.27 -20.295,1.27
3D body "PLS-1.step": height 8.54, standoff -2.9, extent -20.295,-1.27 -17.755,1.27
3D body "PLS-1.step": height 8.54, standoff -2.9, extent -17.755,-1.27 -15.215,1.27
3D body "PLS-1.step": height 8.54, standoff -2.9, extent -15.215,-1.27 -12.675,1.27
3D body "PLS-1.step": height 8.54, standoff -2.9, extent -10.135,-1.27 -7.595,1.27
3D body "PLS-1.step": height 8.54, standoff -2.9, extent -5.055,-1.27 -2.515,1.27
3D body "PLS-1.step": height 8.54, standoff -2.9, extent 2.565,-1.27 5.105,1.27
3D body "PLS-1.step": height 8.54, standoff -2.9, extent 7.645,-1.27 10.185,1.27
3D body "PLS-1.step": height 8.54, standoff -2.9, extent 12.725,-1.27 15.265,1.27
3D body "PLS-1.step": height 8.54, standoff -2.9, extent 17.805,-1.27 20.345,1.27
3D body "PLS-1.step": height 8.54, standoff -2.9, extent 22.885,-1.27 25.425,1.27

## HDR_M_1X25 [mm] "Connector; Header; 25 Position"
height 7.5
pads (25):
  round 1.4 / inner round 1.4 / far side oval 1.4x2.2 hole 1: 1(-30.48,0) 2(-27.94,0) 3(-25.4,0) 4(-22.86,0) 5(-20.32,0) 6(-17.78,0) 7(-15.24,0) 8(-12.7,0) 9(-10.16,0) 10(-7.62,0) 11(-5.08,0) 12(-2.54,0) 13(0,0) 14(2.54,0) 15(5.08,0) 16(7.62,0) 17(10.16,0) 18(12.7,0) 19(15.24,0) 20(17.78,0) 21(20.32,0) 22(22.86,0) 23(25.4,0) 24(27.94,0) 25(30.48,0)
TopOverlay:
  drawing of 177 lines, arcs and shapes, not listed
3D body "PLS-1.step": height 8.54, standoff -2.9, extent 29.235,-1.27 31.775,1.27
3D body "PLS-1.step": height 8.54, standoff -2.9, extent 26.695,-1.27 29.235,1.27
3D body "PLS-1.step": height 8.54, standoff -2.9, extent 24.155,-1.27 26.695,1.27
3D body "PLS-1.step": height 8.54, standoff -2.9, extent 19.075,-1.27 21.615,1.27
3D body "PLS-1.step": height 8.54, standoff -2.9, extent 13.995,-1.27 16.535,1.27
3D body "PLS-1.step": height 8.54, standoff -2.9, extent 8.915,-1.27 11.455,1.27
3D body "PLS-1.step": height 8.54, standoff -2.9, extent 3.835,-1.27 6.375,1.27
3D body "PLS-1.step": height 8.54, standoff -2.9, extent -1.245,-1.27 1.295,1.27
3D body "PLS-1.step": height 8.54, standoff -2.9, extent -3.785,-1.27 -1.245,1.27
3D body "PLS-1.step": height 8.54, standoff -2.9, extent -8.865,-1.27 -6.325,1.27
3D body "PLS-1.step": height 8.54, standoff -2.9, extent -13.945,-1.27 -11.405,1.27
3D body "PLS-1.step": height 8.54, standoff -2.9, extent -29.185,-1.27 -26.645,1.27
3D body "PLS-1.step": height 8.54, standoff -2.9, extent -31.725,-1.27 -29.185,1.27
3D body "PLS-1.step": height 8.54, standoff -2.9, extent -26.645,-1.27 -24.105,1.27
3D body "PLS-1.step": height 8.54, standoff -2.9, extent -24.105,-1.27 -21.565,1.27
3D body "PLS-1.step": height 8.54, standoff -2.9, extent -21.565,-1.27 -19.025,1.27
3D body "PLS-1.step": height 8.54, standoff -2.9, extent -19.025,-1.27 -16.485,1.27
3D body "PLS-1.step": height 8.54, standoff -2.9, extent -16.485,-1.27 -13.945,1.27
3D body "PLS-1.step": height 8.54, standoff -2.9, extent -11.405,-1.27 -8.865,1.27
3D body "PLS-1.step": height 8.54, standoff -2.9, extent -6.325,-1.27 -3.785,1.27
3D body "PLS-1.step": height 8.54, standoff -2.9, extent 1.295,-1.27 3.835,1.27
3D body "PLS-1.step": height 8.54, standoff -2.9, extent 6.375,-1.27 8.915,1.27
3D body "PLS-1.step": height 8.54, standoff -2.9, extent 11.455,-1.27 13.995,1.27
3D body "PLS-1.step": height 8.54, standoff -2.9, extent 16.535,-1.27 19.075,1.27
3D body "PLS-1.step": height 8.54, standoff -2.9, extent 21.615,-1.27 24.155,1.27

## HDR_M_1X26 [mm] "Connector; Header; 26 Position"
height 7.5
pads (26):
  round 1.4 / inner round 1.4 / far side oval 1.4x2.2 hole 1: 1(-31.75,0) 2(-29.21,0) 3(-26.67,0) 4(-24.13,0) 5(-21.59,0) 6(-19.05,0) 7(-16.51,0) 8(-13.97,0) 9(-11.43,0) 10(-8.89,0) 11(-6.35,0) 12(-3.81,0) 13(-1.27,0) 14(1.27,0) 15(3.81,0) 16(6.35,0) 17(8.89,0) 18(11.43,0) 19(13.97,0) 20(16.51,0) 21(19.05,0) 22(21.59,0) 23(24.13,0) 24(26.67,0) 25(29.21,0) 26(31.75,0)
TopOverlay:
  drawing of 184 lines, arcs and shapes, not listed
3D body "PLS-1.step": height 8.54, standoff -2.9, extent 27.965,-1.27 30.505,1.27
3D body "PLS-1.step": height 8.54, standoff -2.9, extent 25.425,-1.27 27.965,1.27
3D body "PLS-1.step": height 8.54, standoff -2.9, extent 22.885,-1.27 25.425,1.27
3D body "PLS-1.step": height 8.54, standoff -2.9, extent 17.805,-1.27 20.345,1.27
3D body "PLS-1.step": height 8.54, standoff -2.9, extent 12.725,-1.27 15.265,1.27
3D body "PLS-1.step": height 8.54, standoff -2.9, extent 7.645,-1.27 10.185,1.27
3D body "PLS-1.step": height 8.54, standoff -2.9, extent 2.565,-1.27 5.105,1.27
3D body "PLS-1.step": height 8.54, standoff -2.9, extent -2.515,-1.27 0.025,1.27
3D body "PLS-1.step": height 8.54, standoff -2.9, extent -5.055,-1.27 -2.515,1.27
3D body "PLS-1.step": height 8.54, standoff -2.9, extent -10.135,-1.27 -7.595,1.27
3D body "PLS-1.step": height 8.54, standoff -2.9, extent -15.215,-1.27 -12.675,1.27
3D body "PLS-1.step": height 8.54, standoff -2.9, extent -30.455,-1.27 -27.915,1.27
3D body "PLS-1.step": height 8.54, standoff -2.9, extent -32.995,-1.27 -30.455,1.27
3D body "PLS-1.step": height 8.54, standoff -2.9, extent -27.915,-1.27 -25.375,1.27
3D body "PLS-1.step": height 8.54, standoff -2.9, extent -25.375,-1.27 -22.835,1.27
3D body "PLS-1.step": height 8.54, standoff -2.9, extent -22.835,-1.27 -20.295,1.27
3D body "PLS-1.step": height 8.54, standoff -2.9, extent -20.295,-1.27 -17.755,1.27
3D body "PLS-1.step": height 8.54, standoff -2.9, extent -17.755,-1.27 -15.215,1.27
3D body "PLS-1.step": height 8.54, standoff -2.9, extent -12.675,-1.27 -10.135,1.27
3D body "PLS-1.step": height 8.54, standoff -2.9, extent -7.595,-1.27 -5.055,1.27
3D body "PLS-1.step": height 8.54, standoff -2.9, extent 0.025,-1.27 2.565,1.27
3D body "PLS-1.step": height 8.54, standoff -2.9, extent 5.105,-1.27 7.645,1.27
3D body "PLS-1.step": height 8.54, standoff -2.9, extent 10.185,-1.27 12.725,1.27
3D body "PLS-1.step": height 8.54, standoff -2.9, extent 15.265,-1.27 17.805,1.27
3D body "PLS-1.step": height 8.54, standoff -2.9, extent 20.345,-1.27 22.885,1.27
3D body "PLS-1.step": height 8.54, standoff -2.9, extent 30.505,-1.27 33.045,1.27

## HDR_M_1X27 [mm] "Connector; Header; 27 Position"
height 7.5
pads (27):
  round 1.4 / inner round 1.4 / far side oval 1.4x2.2 hole 1: 1(-27.94,0) 2(-25.4,0) 3(-22.86,0) 4(-20.32,0) 5(-17.78,0) 6(-15.24,0) 7(-12.7,0) 8(-10.16,0) 9(-7.62,0) 10(-5.08,0) 11(-2.54,0) 12(0,0) 13(2.54,0) 14(5.08,0) 15(7.62,0) 16(10.16,0) 17(12.7,0) 18(15.24,0) 19(17.78,0) 20(20.32,0) 21(22.86,0) 22(25.4,0) 23(27.94,0) 24(30.48,0) 25(33.02,0) 26(35.56,0) 27(38.1,0)
TopOverlay:
  drawing of 191 lines, arcs and shapes, not listed
3D body "PLS-1.step": height 8.54, standoff -2.9, extent 36.855,-1.27 39.395,1.27
3D body "PLS-1.step": height 8.54, standoff -2.9, extent 31.775,-1.27 34.315,1.27
3D body "PLS-1.step": height 8.54, standoff -2.9, extent 29.235,-1.27 31.775,1.27
3D body "PLS-1.step": height 8.54, standoff -2.9, extent 26.695,-1.27 29.235,1.27
3D body "PLS-1.step": height 8.54, standoff -2.9, extent 21.615,-1.27 24.155,1.27
3D body "PLS-1.step": height 8.54, standoff -2.9, extent 16.535,-1.27 19.075,1.27
3D body "PLS-1.step": height 8.54, standoff -2.9, extent 11.455,-1.27 13.995,1.27
3D body "PLS-1.step": height 8.54, standoff -2.9, extent 6.375,-1.27 8.915,1.27
3D body "PLS-1.step": height 8.54, standoff -2.9, extent 1.295,-1.27 3.835,1.27
3D body "PLS-1.step": height 8.54, standoff -2.9, extent -1.245,-1.27 1.295,1.27
3D body "PLS-1.step": height 8.54, standoff -2.9, extent -6.325,-1.27 -3.785,1.27
3D body "PLS-1.step": height 8.54, standoff -2.9, extent -11.405,-1.27 -8.865,1.27
3D body "PLS-1.step": height 8.54, standoff -2.9, extent -26.645,-1.27 -24.105,1.27
3D body "PLS-1.step": height 8.54, standoff -2.9, extent -29.185,-1.27 -26.645,1.27
3D body "PLS-1.step": height 8.54, standoff -2.9, extent -24.105,-1.27 -21.565,1.27
3D body "PLS-1.step": height 8.54, standoff -2.9, extent -21.565,-1.27 -19.025,1.27
3D body "PLS-1.step": height 8.54, standoff -2.9, extent -19.025,-1.27 -16.485,1.27
3D body "PLS-1.step": height 8.54, standoff -2.9, extent -16.485,-1.27 -13.945,1.27
3D body "PLS-1.step": height 8.54, standoff -2.9, extent -13.945,-1.27 -11.405,1.27
3D body "PLS-1.step": height 8.54, standoff -2.9, extent -8.865,-1.27 -6.325,1.27
3D body "PLS-1.step": height 8.54, standoff -2.9, extent -3.785,-1.27 -1.245,1.27
3D body "PLS-1.step": height 8.54, standoff -2.9, extent 3.835,-1.27 6.375,1.27
3D body "PLS-1.step": height 8.54, standoff -2.9, extent 8.915,-1.27 11.455,1.27
3D body "PLS-1.step": height 8.54, standoff -2.9, extent 13.995,-1.27 16.535,1.27
3D body "PLS-1.step": height 8.54, standoff -2.9, extent 19.075,-1.27 21.615,1.27
3D body "PLS-1.step": height 8.54, standoff -2.9, extent 24.155,-1.27 26.695,1.27
3D body "PLS-1.step": height 8.54, standoff -2.9, extent 34.315,-1.27 36.855,1.27

## HDR_M_1X28 [mm] "Connector; Header; 28 Position"
height 7.5
pads (28):
  round 1.4 / inner round 1.4 / far side oval 1.4x2.2 hole 1: 1(-34.925,0) 2(-32.385,0) 3(-29.845,0) 4(-27.305,0) 5(-24.765,0) 6(-22.225,0) 7(-19.685,0) 8(-17.145,0) 9(-14.605,0) 10(-12.065,0) 11(-9.525,0) 12(-6.985,0) 13(-4.445,0) 14(-1.905,0) 15(0.635,0) 16(3.175,0) 17(5.715,0) 18(8.255,0) 19(10.795,0) 20(13.335,0) 21(15.875,0) 22(18.415,0) 23(20.955,0) 24(23.495,0) 25(26.035,0) 26(28.575,0) 27(31.115,0) 28(33.655,0)
TopOverlay:
  drawing of 198 lines, arcs and shapes, not listed
3D body "PLS-1.step": height 8.54, standoff -2.9, extent 29.87,-1.27 32.41,1.27
3D body "PLS-1.step": height 8.54, standoff -2.9, extent 24.79,-1.27 27.33,1.27
3D body "PLS-1.step": height 8.54, standoff -2.9, extent 22.25,-1.27 24.79,1.27
3D body "PLS-1.step": height 8.54, standoff -2.9, extent 19.71,-1.27 22.25,1.27
3D body "PLS-1.step": height 8.54, standoff -2.9, extent 14.63,-1.27 17.17,1.27
3D body "PLS-1.step": height 8.54, standoff -2.9, extent 9.55,-1.27 12.09,1.27
3D body "PLS-1.step": height 8.54, standoff -2.9, extent 4.47,-1.27 7.01,1.27
3D body "PLS-1.step": height 8.54, standoff -2.9, extent -0.61,-1.27 1.93,1.27
3D body "PLS-1.step": height 8.54, standoff -2.9, extent -5.69,-1.27 -3.15,1.27
3D body "PLS-1.step": height 8.54, standoff -2.9, extent -8.23,-1.27 -5.69,1.27
3D body "PLS-1.step": height 8.54, standoff -2.9, extent -13.31,-1.27 -10.77,1.27
3D body "PLS-1.step": height 8.54, standoff -2.9, extent -18.39,-1.27 -15.85,1.27
3D body "PLS-1.step": height 8.54, standoff -2.9, extent -33.63,-1.27 -31.09,1.27
3D body "PLS-1.step": height 8.54, standoff -2.9, extent -36.17,-1.27 -33.63,1.27
3D body "PLS-1.step": height 8.54, standoff -2.9, extent -31.09,-1.27 -28.55,1.27
3D body "PLS-1.step": height 8.54, standoff -2.9, extent -28.55,-1.27 -26.01,1.27
3D body "PLS-1.step": height 8.54, standoff -2.9, extent -26.01,-1.27 -23.47,1.27
3D body "PLS-1.step": height 8.54, standoff -2.9, extent -23.47,-1.27 -20.93,1.27
3D body "PLS-1.step": height 8.54, standoff -2.9, extent -20.93,-1.27 -18.39,1.27
3D body "PLS-1.step": height 8.54, standoff -2.9, extent -15.85,-1.27 -13.31,1.27
3D body "PLS-1.step": height 8.54, standoff -2.9, extent -10.77,-1.27 -8.23,1.27
3D body "PLS-1.step": height 8.54, standoff -2.9, extent -3.15,-1.27 -0.61,1.27
3D body "PLS-1.step": height 8.54, standoff -2.9, extent 1.93,-1.27 4.47,1.27
3D body "PLS-1.step": height 8.54, standoff -2.9, extent 7.01,-1.27 9.55,1.27
3D body "PLS-1.step": height 8.54, standoff -2.9, extent 12.09,-1.27 14.63,1.27
3D body "PLS-1.step": height 8.54, standoff -2.9, extent 17.17,-1.27 19.71,1.27
3D body "PLS-1.step": height 8.54, standoff -2.9, extent 27.33,-1.27 29.87,1.27
3D body "PLS-1.step": height 8.54, standoff -2.9, extent 32.41,-1.27 34.95,1.27

## HDR_M_1X29 [mm] "Connector; Header; 29 Position"
height 7.5
pads (29):
  round 1.4 / inner round 1.4 / far side oval 1.4x2.2 hole 1: 1(-35.56,0) 2(-33.02,0) 3(-30.48,0) 4(-27.94,0) 5(-25.4,0) 6(-22.86,0) 7(-20.32,0) 8(-17.78,0) 9(-15.24,0) 10(-12.7,0) 11(-10.16,0) 12(-7.62,0) 13(-5.08,0) 14(-2.54,0) 15(0,0) 16(2.54,0) 17(5.08,0) 18(7.62,0) 19(10.16,0) 20(12.7,0) 21(15.24,0) 22(17.78,0) 23(20.32,0) 24(22.86,0) 25(25.4,0) 26(27.94,0) 27(30.48,0) 28(33.02,0) 29(35.56,0)
TopOverlay:
  drawing of 205 lines, arcs and shapes, not listed
3D body "PLS-1.step": height 8.54, standoff -2.9, extent 34.315,-1.27 36.855,1.27
3D body "PLS-1.step": height 8.54, standoff -2.9, extent 29.235,-1.27 31.775,1.27
3D body "PLS-1.step": height 8.54, standoff -2.9, extent 24.155,-1.27 26.695,1.27
3D body "PLS-1.step": height 8.54, standoff -2.9, extent 21.615,-1.27 24.155,1.27
3D body "PLS-1.step": height 8.54, standoff -2.9, extent 19.075,-1.27 21.615,1.27
3D body "PLS-1.step": height 8.54, standoff -2.9, extent 13.995,-1.27 16.535,1.27
3D body "PLS-1.step": height 8.54, standoff -2.9, extent 8.915,-1.27 11.455,1.27
3D body "PLS-1.step": height 8.54, standoff -2.9, extent 3.835,-1.27 6.375,1.27
3D body "PLS-1.step": height 8.54, standoff -2.9, extent -1.245,-1.27 1.295,1.27
3D body "PLS-1.step": height 8.54, standoff -2.9, extent -6.325,-1.27 -3.785,1.27
3D body "PLS-1.step": height 8.54, standoff -2.9, extent -8.865,-1.27 -6.325,1.27
3D body "PLS-1.step": height 8.54, standoff -2.9, extent -13.945,-1.27 -11.405,1.27
3D body "PLS-1.step": height 8.54, standoff -2.9, extent -19.025,-1.27 -16.485,1.27
3D body "PLS-1.step": height 8.54, standoff -2.9, extent -34.265,-1.27 -31.725,1.27
3D body "PLS-1.step": height 8.54, standoff -2.9, extent -36.805,-1.27 -34.265,1.27
3D body "PLS-1.step": height 8.54, standoff -2.9, extent -31.725,-1.27 -29.185,1.27
3D body "PLS-1.step": height 8.54, standoff -2.9, extent -29.185,-1.27 -26.645,1.27
3D body "PLS-1.step": height 8.54, standoff -2.9, extent -26.645,-1.27 -24.105,1.27
3D body "PLS-1.step": height 8.54, standoff -2.9, extent -24.105,-1.27 -21.565,1.27
3D body "PLS-1.step": height 8.54, standoff -2.9, extent -21.565,-1.27 -19.025,1.27
3D body "PLS-1.step": height 8.54, standoff -2.9, extent -16.485,-1.27 -13.945,1.27
3D body "PLS-1.step": height 8.54, standoff -2.9, extent -11.405,-1.27 -8.865,1.27
3D body "PLS-1.step": height 8.54, standoff -2.9, extent -3.785,-1.27 -1.245,1.27
3D body "PLS-1.step": height 8.54, standoff -2.9, extent 1.295,-1.27 3.835,1.27
3D body "PLS-1.step": height 8.54, standoff -2.9, extent 6.375,-1.27 8.915,1.27
3D body "PLS-1.step": height 8.54, standoff -2.9, extent 11.455,-1.27 13.995,1.27
3D body "PLS-1.step": height 8.54, standoff -2.9, extent 16.535,-1.27 19.075,1.27
3D body "PLS-1.step": height 8.54, standoff -2.9, extent 26.695,-1.27 29.235,1.27
3D body "PLS-1.step": height 8.54, standoff -2.9, extent 31.775,-1.27 34.315,1.27